# Altium footprint library AltiumDesigner.PcbLib: 3 footprints
Each footprint in its own frame and in the unit in brackets; x right, y up, seen from the top. Pads: shape width x height; smd on the part's side, far side on the other; paste and mask are expansions set on the pad; w line width, h text height; cw(c..) or ccw(c..) is an arc to the next point about the centre after c.
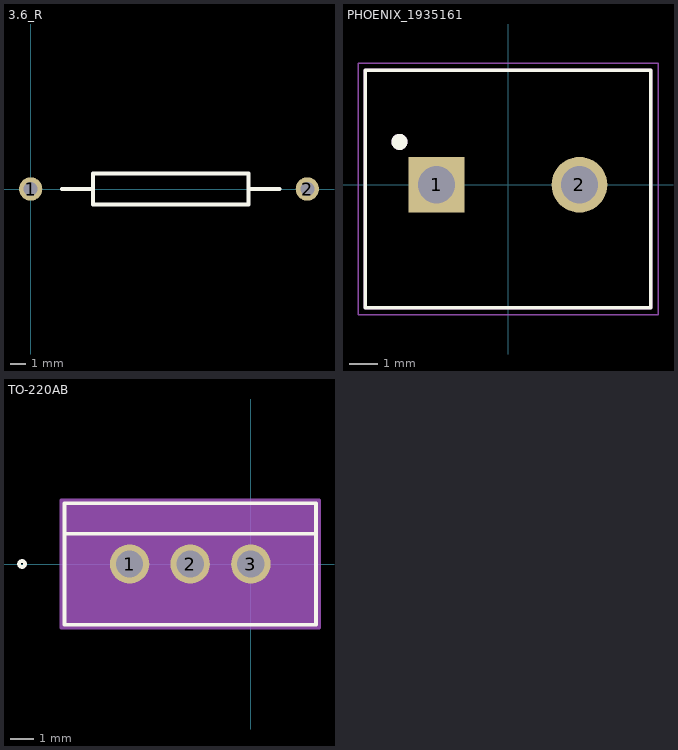
[diagram p0: the footprints below, top view; thin cyan lines are the x and y axes]

## 3.6_R [mm] "PR01000103608JR500"
pads (2):
  round 1.5 hole 0.9: 1(0,0) 2(17.78,0)
Top Overlay:
  lines w0.254: 2,0 4,0 ; 16,0 14,0 ; 4,0 4,1 14,1 14,0 ; 4,0 4,-1 14,-1 14,0

## PHOENIX_1935161 [mm]
pads (2):
  rect 1.95x1.95 hole 1.3: 1(-2.5,0)
  round 1.95 hole 1.3: 2(2.5,0)
Top Overlay:
  circle w0.28: c-3.8,1.5 r0.14
  lines w0.127: -5,-4.3 -5,4 5,4 5,-4.3 -5,-4.3
Mechanical 4:
  circle w0.28: c-3.8,1.5 r0.14
  circle w0.28: c-3.8,1.5 r0.14
  lines w0.127: -5,-4.3 5,-4.3 ; -5,-4.3 -5,4 ; -5,-4.3 5,-4.3 ; -5,-4.3 -5,4 ; -5,4 5,4 ; -5,4 5,4 ; 5,-4.3 5,4 ; 5,-4.3 5,4
  text "VALUE" at -5.093,-6.616 h1.88
  text "NAME" at -5.087,4.837 h1.88
  text "VALUE" at -5.093,-6.616 h1.88
  text "NAME" at -5.087,4.837 h1.88
Mechanical 16:
  lines w0.05: -5.25,-4.55 -5.25,4.25 5.25,4.25 5.25,-4.55 -5.25,-4.55
3D body "1935161--3DModel-STEP-56544.STEP": height 12.05, standoff -2.85, extent -5.4,-3.957 5,5.043

## TO-220AB [mil]
pads (3):
  round 65 hole 45 mask+0: 1(-200,0) 2(-100,0) 3(0,0)
Top Overlay:
  circle w6: c-377.5,0 r5
  lines w6: -302.5,50 102.5,50 ; -307.5,-100 -307.5,100 107.5,100 107.5,-100 -307.5,-100
Mechanical 13:
  circle w0: c-292.5,0 r5
  lines w1: -302.5,45 102.5,45 ; -302.5,-95 -302.5,95 102.5,95 102.5,-95 -302.5,-95
  lines w6: -210,0 -190,0 ; -200,-10 -200,10
  text "TAB" at -118.75,57.5 h25
Mechanical 15:
  region: 112.5,105 -312.5,105 -312.5,-105 112.5,-105
  lines w6: -312.5,-105 112.5,-105 112.5,105 -312.5,105 -312.5,-105
3D body: height 10, standoff 0, extent 0,0 10,10
3D body "TO-220AB.stp": height 865, standoff -40, extent -302.51,-95 102.52,95